# Altium footprint library Button.PcbLib: 20 footprints (part 1 of 2)
Each footprint in its own frame and in the unit in brackets; x right, y up, seen from the top. Pads: shape width x height; smd on the part's side, far side on the other; paste and mask are expansions set on the pad; w line width, h text height; cw(c..) or ccw(c..) is an arc to the next point about the centre after c.
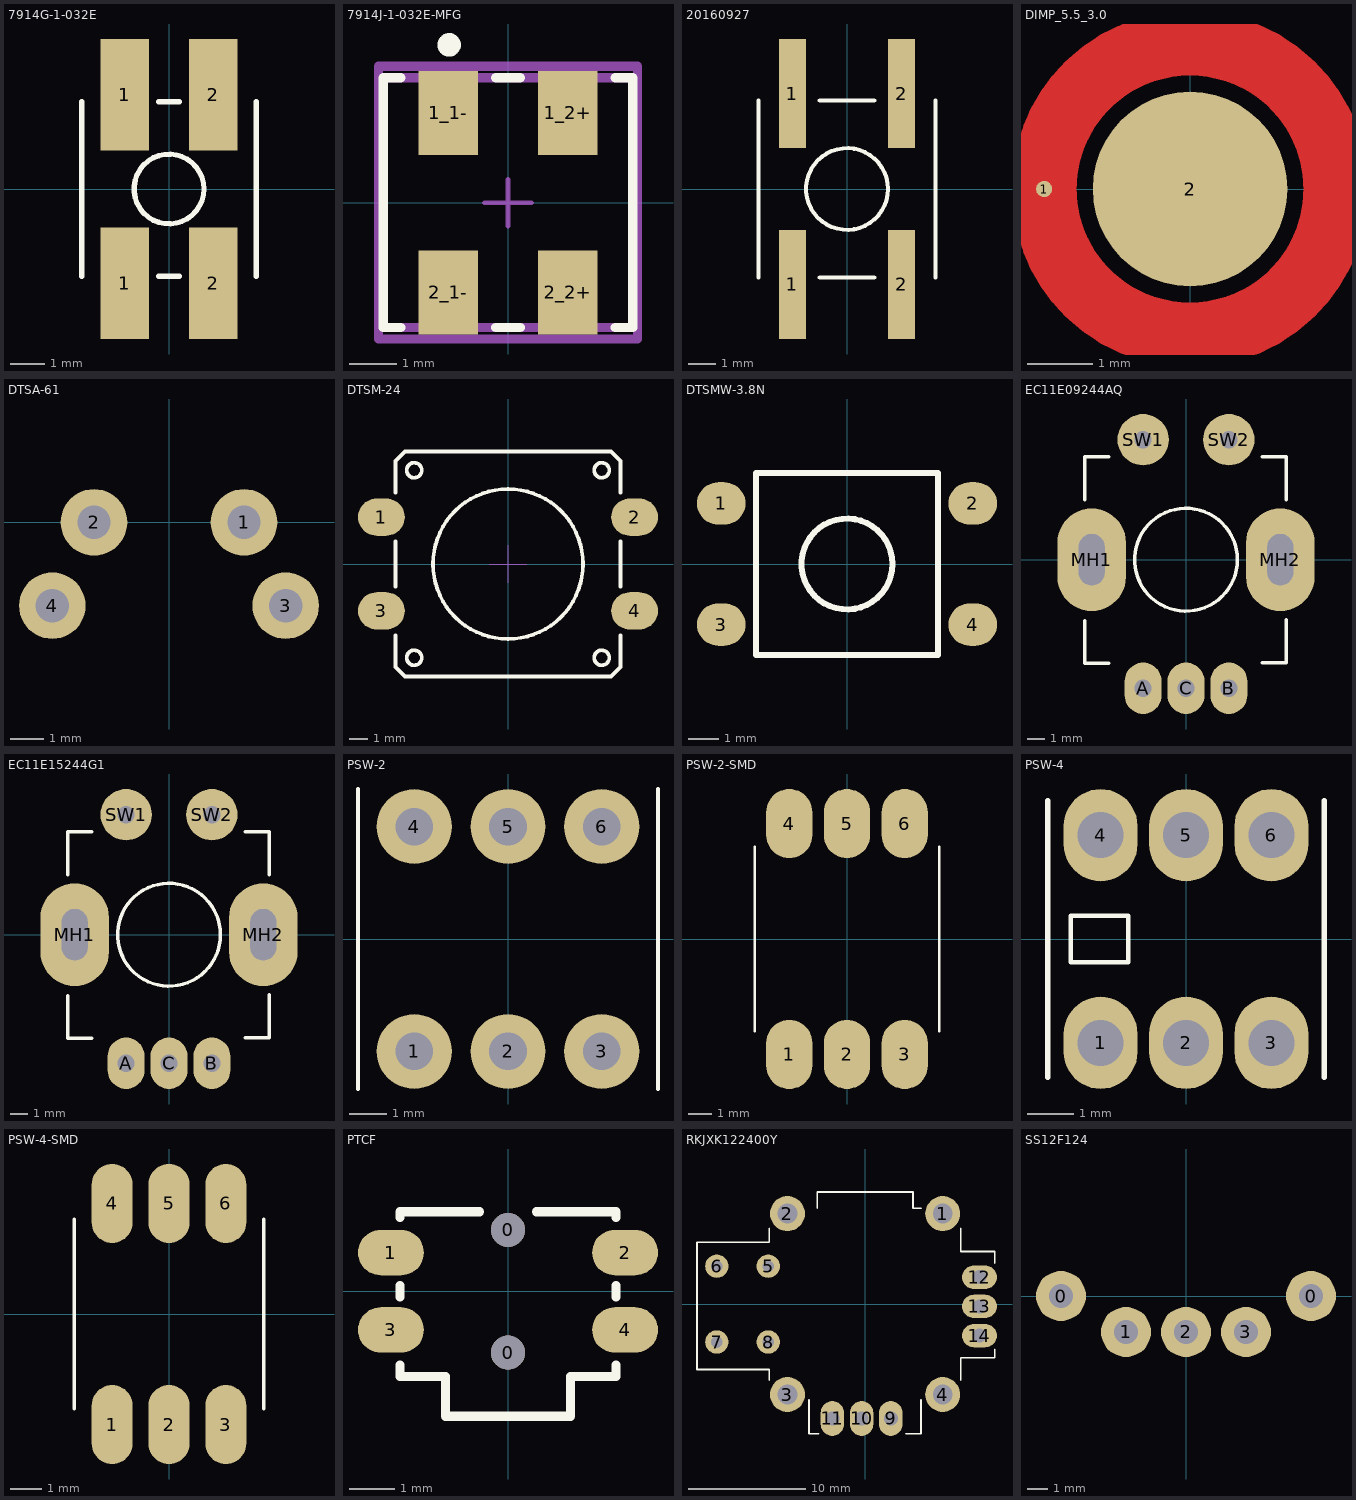
[diagram p0: the footprints below, top view; thin cyan lines are the x and y axes]

## 7914G-1-032E [mm]
pads (4):
  rect 1.4x3.2 smd: 1(-1.27,-2.7) 1(-1.27,2.7) 2(1.27,-2.7) 2(1.27,2.7)
Top Overlay:
  circle w0.15: c0,0 r1
  lines w0.15: -2.5,-2.5 -2.5,2.5 ; -0.3,-2.5 0.3,-2.5 ; -0.3,2.5 0.3,2.5 ; 2.5,-2.5 2.5,2.5
3D body "7914G-1-032.stp": height 3.34, standoff 0.01, extent -2.502,-3.098 2.502,3.099

## 7914J-1-032E-MFG [mm]
pads (4):
  rect 1.27x1.78 smd paste+0 mask+0: 1_1-(-1.27,1.905) 1_2+(1.27,1.905) 2_1-(-1.27,-1.905) 2_2+(1.27,-1.905)
Top Overlay:
  circle w0.25: c-1.25,3.35 r0.125
  lines w0.2: -2.28,-2.65 -2.65,-2.65 -2.65,2.65 -2.28,2.65 ; -0.26,-2.65 0.26,-2.65 ; -0.26,2.65 0.26,2.65 ; 2.28,-2.65 2.65,-2.65 2.65,2.65 2.28,2.65
Top 3D Body:
  lines w0.2: -2.65,-2.65 2.65,-2.65 2.65,2.65 -2.65,2.65 -2.65,-2.65
Top Courtyard:
  lines w0.2: -2.75,-2.895 2.75,-2.895 2.75,2.895 -2.75,2.895 -2.75,-2.895
Top Assembly:
  lines w0.2: -2.75,-2.895 2.75,-2.895 2.75,2.895 -2.75,2.895 -2.75,-2.895
  text ".Designator" at 0,0.188 h1
Top Component Center:
  lines w0.1: -0.5,0 0.5,0 ; 0,-0.5 0,0.5
3D body "Switch_Bourns_Inc_7914J-1-032E_eec.STEP": height 0.25, standoff 0, extent -2.75,-2.895 2.75,2.895

## 20160927 [mm] "20160927"
pads (4):
  rect 1x4 smd: 1(-2,-3.5) 1(-2,3.5) 2(2,-3.5) 2(2,3.5)
Top Overlay:
  circle w0.15: c0,0 r1.5
  lines w0.15: -3.25,-3.25 -3.25,3.25 ; -1,-3.25 1,-3.25 ; -1,3.25 1,3.25 ; 3.25,-3.25 3.25,3.25
3D body: height 2.4, standoff 0, extent -3.125,-3.125 3.125,3.125
3D body: height 3.2, standoff 0, extent -1.488,-1.497 1.5,1.497

## DIMP_5.5_3.0 [mm]
pads (2):
  round 0.25 smd: 1(-2.25,0)
  round 3 smd mask+0.5: 2(0,0)
Top Layer:
  circle w1: c0,0 r2.25
Top Solder:
  circle w1: c0,0 r2.25

## DTSA-61 [mm]
pads (4):
  round 2 hole 1: 1(2.25,0) 2(-2.25,0) 3(3.5,-2.5) 4(-3.5,-2.5)
3D body "������.stp": height 7.11, standoff -3.74, extent -4.194,-4.05 4.194,8.1

## DTSM-24 [mm]
pads (4):
  oval 2.5x2 smd mask+0.1: 1(-6.75,2.5) 2(6.75,2.5) 3(-6.75,-2.5) 4(6.75,-2.5)
Top Overlay:
  circle w0.2: c0,0 r4
  circle w0.2: c5,5 r0.4
  circle w0.2: c5,-5 r0.4
  circle w0.2: c-5,-5 r0.4
  circle w0.2: c-5,5 r0.4
  lines w0.2: -6,-3.8 -6,-5.5 -5.5,-6 5.5,-6 6,-5.5 6,-3.8 ; -6,-1.2 -6,1.2 ; -6,3.8 -6,5.5 -5.5,6 5.5,6 6,5.5 6,3.8 ; 6,-1.2 6,1.2
Mechanical 15:
  lines w0.05: -1,0 1,0 ; 0,-1 0,1
3D body "DTSM-81.STEP": height 7.32, standoff 0.02, extent -7.6,-6 7.6,6

## DTSMW-3.8N [mm] "Surface Mount DTSM Tact Switch; Body 6 x 6 mm (LxW)"
pads (4):
  oval 1.6x1.4 smd mask+0.1: 1(-4.15,2) 2(4.15,2) 3(-4.15,-2) 4(4.15,-2)
Top Overlay:
  circle w0.2: c0,0 r1.5
  lines w0.2: -3,-3 -3,3 3,3 3,-3 -3,-3
3D body "DTSMW-3.8N(69N-TR).STEP": height 4.01, standoff 0.02, extent -4.493,-3.1 4.493,3.1

## EC11E09244AQ [mm]
pads (7):
  oval 2.15x3 hole 1: A(-2.5,-7.5) B(2.5,-7.5) C(0,-7.5)
  oval 4x6 hole 1.5 slot 3 at 90 deg: MH1(-5.5,0) MH2(5.5,0)
  round 3 hole 1: SW1(-2.5,7) SW2(2.5,7)
Top Overlay:
  circle w0.2: c0,0 r3
  lines w0.2: -5.9,-3.55 -5.9,-6.05 -4.5,-6.05 ; -5.9,3.5 -5.9,6 -4.5,6 ; 4.45,-6 5.85,-6 5.85,-3.5 ; 4.45,6 5.85,6 5.85,3.5
3D body "EC11E09244AQ.stp": height 24.51, standoff -3.49, extent -6.549,-7.725 6.549,7.225

## EC11E15244G1 [mm]
pads (7):
  oval 2.15x3 hole 1: A(-2.5,-7.5) B(2.5,-7.5) C(0,-7.5)
  oval 4x6 hole 1.5 slot 3 at 90 deg: MH1(-5.5,0) MH2(5.5,0)
  round 3 hole 1: SW1(-2.5,7) SW2(2.5,7)
Top Overlay:
  circle w0.2: c0,0 r3
  lines w0.2: -5.9,-3.55 -5.9,-6.05 -4.5,-6.05 ; -5.9,3.5 -5.9,6 -4.5,6 ; 4.45,-6 5.85,-6 5.85,-3.5 ; 4.45,6 5.85,6 5.85,3.5
3D body "EC11E15244G1.stp": height 24.51, standoff -3.69, extent -6.549,-7.725 6.549,7.225

## PSW-2 [mm] "PSW-2 with fixation"
pads (6):
  round 2 hole 1: 1(-2.5,-3) 2(0,-3) 3(2.5,-3) 4(-2.5,3) 5(0,3) 6(2.5,3)
Top Overlay:
  lines w0.12: -4,-4 -4,4 ; 4,-4 4,4
3D body "PushButton8mm.STEP": height 13.01, standoff 0.01, extent -4,-4 4,4
3D body "8x8 Pushbutton.STEP": height 13.01, standoff -3.49, extent -4,-4 4,4

## PSW-2-SMD [mm] "PSW-2 with fixation"
pads (6):
  oval 2x3 smd: 1(-2.5,-5) 2(0,-5) 3(2.5,-5) 4(-2.5,5) 5(0,5) 6(2.5,5)
Top Overlay:
  lines w0.12: -4,-4 -4,4 ; 4,-4 4,4
3D body "PushButton8mm.STEP": height 13.5, standoff 0.5, extent -4,-4 4,4

## PSW-4 [mm] "PSW-2 with fixation"
pads (6):
  oval 1.6x2 hole 1: 1(-1.85,-2.25) 2(0,-2.25) 3(1.85,-2.25) 4(-1.85,2.25) 5(0,2.25) 6(1.85,2.25)
Top Overlay:
  lines w0.1: -2.5,-0.5 -2.5,0.5 -1.25,0.5 -1.25,-0.5 -2.5,-0.5
  lines w0.12: -3,-3 -3,3 ; 3,-3 3,3
3D body "Toggle Button (6 x 6 x 10mm) - Latching.stp": height 10.26, standoff -3.13, extent -2.908,-2.87 2.908,2.87

## PSW-4-SMD [mm] "PSW-2 with fixation"
pads (6):
  oval 1.3x2.5 smd: 1(-1.8,-3.5) 2(0,-3.5) 3(1.8,-3.5) 4(-1.8,3.5) 5(0,3.5) 6(1.8,3.5)
Top Overlay:
  lines w0.12: -3,-3 -3,3 ; 3,-3 3,3
3D body "Toggle Button (6 x 6 x 10mm) - Latching.stp": height 10.36, standoff -3.03, extent -2.908,-2.87 2.908,2.87

## PTCF [mm]
height 1.67
pads (6):
  round 0.75 hole 0.75 unplated mask+0.1: 0(0,-1.35) 0(0,1.35)
  oval 1.45x1 smd mask+0.1: 1(-2.575,0.85) 2(2.575,0.85) 3(-2.575,-0.85) 4(2.575,-0.85)
Top Overlay:
  lines w0.2: -2.375,-1.625 -2.375,-1.875 -1.375,-1.875 -1.375,-2.75 1.375,-2.75 1.375,-1.875 2.375,-1.875 2.375,-1.625 ; -2.375,-0.125 -2.375,0.125 ; -2.375,1.625 -2.375,1.75 -0.625,1.75 ; 0.625,1.75 2.375,1.75 2.375,1.625 ; 2.375,-0.125 2.375,0.125
3D body "PTCF.STEP": height 1.69, standoff -0.58, extent -2.95,-2.75 2.95,1.75

## RKJXK122400Y [mm]
pads (14):
  round 3 hole 1.7: 1(6.65,7.75) 2(-6.65,7.75) 3(-6.65,-7.75) 4(6.65,-7.75)
  round 2 hole 1: 5(-8.3,3.25) 6(-12.7,3.25) 7(-12.7,-3.25) 8(-8.3,-3.25)
  oval 2x3 hole 1.2: 9(2.2,-9.8) 10(-0.3,-9.8) 11(-2.8,-9.8)
  oval 3x2 hole 1.2: 12(9.8,2.3) 13(9.8,-0.2) 14(9.8,-2.7)
Top Overlay:
  lines w0.15: -8.2,-6.5 -8.2,-5.6 -14.4,-5.6 -14.4,5.3 -8.2,5.3 -8.2,6.5 ; -4.8,-8.2 -4.8,-11.1 -4,-11.1 ; -4.1,8.2 -4.1,9.6 4.1,9.6 4.1,8.2 4.8,8.2 ; 3.5,-11.1 4.8,-11.1 4.8,-8.2 ; 8.2,-6.5 8.2,-4.6 11.1,-4.6 11.1,-3.9 ; 8.2,6.5 8.2,4.5 11.1,4.5 11.1,3.5
3D body "RKJXK122400Y.stp": height 19.31, standoff -3.69, extent -14.384,-11.1 11.1,9.603

## SS12F124 [mm]
pads (5):
  round 2.5 hole 1.2: 0(-6.25,0) 0(6.25,0) 1(-3,-1.8) 2(0,-1.8) 3(3,-1.8)
3D body "User Library-SLIDE SWITCH SS12F23.STEP": height 5.81, standoff -3.29, extent -6.5,-0.7 6.5,12.2